# Altium schematic symbol library BAV99-TP.SchLib: 1 symbol
Pins are listed as number, name and electrical type; pins without a type are passive.

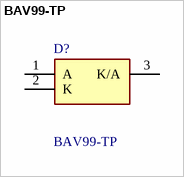
[diagram p0: symbol BAV99-TP]

## BAV99-TP
designator D?
Diode Array 1 Pair Series Connection 70 V 200mA Surface Mount TO-236-3, SC-59, SOT-23-3; Manufacturer_Name: MCC; Geometry.Height: 1.25mm; Manufacturer_Part_Number: BAV99-TP; Mouser Part Number: 833-BAV99-TP; Mouser Price/Stock: https://www.mouser.co.uk/ProductDetail/Micro-Commercial-Components-MCC/BAV99-TP?qs=KFo7JewZbUG9Ksrbr%252B03HQ%3D%3D; Arrow Part Number: BAV99-TP; Arrow Price/Stock: https://www.arrow.com/en/products/bav99-tp/micro-commercial-components?region=europe; Datasheet Link: https://mccsemi.com/pdf/Products/BAV99(SOT-23).pdf
footprint SOT95P237X125-3N
pins: 1 A, 2 K, 3 K/A